# EAGLE library part CY62256LL-?* (library memory-sram)
256K (32K x 8) CMOS-Static RAM Source: http://download.cypress.com.edgesuite.net/design_resources/datasheets/contents/cy62256_8.pdf
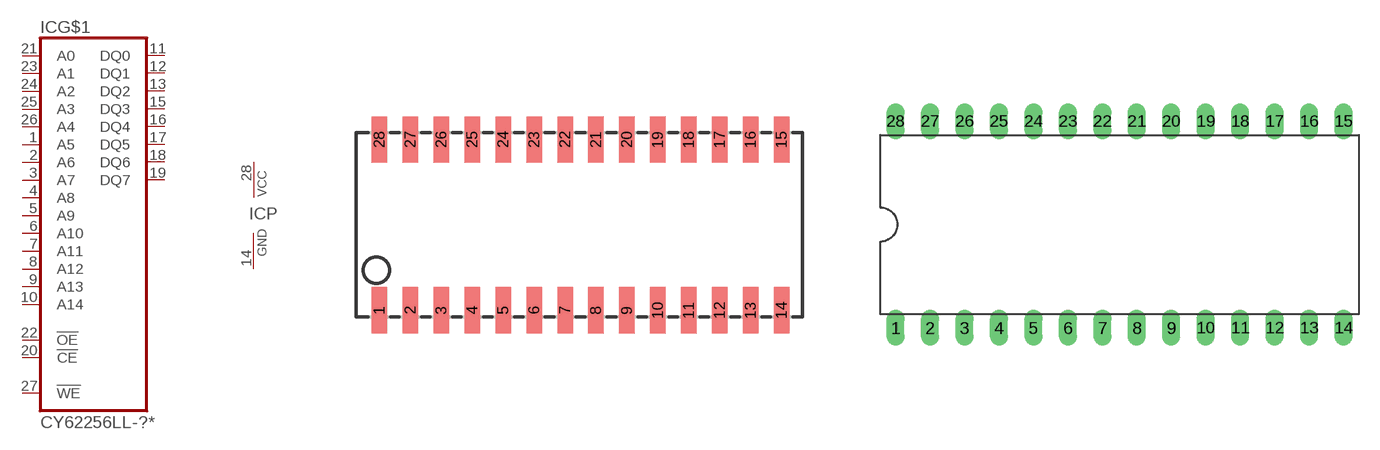
[diagram p25: symbol with the pads of SOJ28/3; footprints SOJ28/3, DIL28-6]

Designator prefix IC; gates G$1=LH52256 P=PWRN

## CY62256LL-SNC, CY62256LL-SNE, CY62256LL-SNI, CY62256LL-SNXC, CY62256LL-SNXE, CY62256LL-SNXI  [SOJ28/3]
1  G$1:A5  in
2  G$1:A6  in
3  G$1:A7  in
4  G$1:A8  in
5  G$1:A9  in
6  G$1:A10  in
7  G$1:A11  in
8  G$1:A12  in
9  G$1:A13  in
10  G$1:A14  in
11  G$1:DQ0
12  G$1:DQ1
13  G$1:DQ2
14  P:GND  pwr
15  G$1:DQ3
16  G$1:DQ4
17  G$1:DQ5
18  G$1:DQ6
19  G$1:DQ7
20  G$1:!CE  in
21  G$1:A0  in
22  G$1:!OE  in
23  G$1:A1  in
24  G$1:A2  in
25  G$1:A3  in
26  G$1:A4  in
27  G$1:!WE  in
28  P:VCC  pwr

## CY62256LL-PC, CY62256LL-PXC  [DIL28-6]
Pads as for SOJ28/3

## CY62256LL-ZC, CY62256LL-ZE, CY62256LL-ZXC, CY62256LL-ZXE, CY62256LL-ZXI  [TSOP1-28]
Pads as for SOJ28/3

## CY62256LL-ZRI, CY62256LL-ZRXE, CY62256LL-ZRXI  [TSOP1-28-R]
Pads as for SOJ28/3

## Footprint SOJ28/3 (pad centres in mm)
Small Outline J-Bend
smd 0.635 x 1.905: 1 -8.255,-3.505; 2 -6.985,-3.505; 3 -5.715,-3.505; 4 -4.445,-3.505; 5 -3.175,-3.505; 6 -1.905,-3.505; 7 -0.635,-3.505; 8 0.635,-3.505; 9 1.905,-3.505; 10 3.175,-3.505; 11 4.445,-3.505; 12 5.715,-3.505; 13 6.985,-3.505; 14 8.255,-3.505; 15 8.255,3.505; 16 6.985,3.505; 17 5.715,3.505; 18 4.445,3.505; 19 3.175,3.505; 20 1.905,3.505; 21 0.635,3.505; 22 -0.635,3.505; 23 -1.905,3.505; 24 -3.175,3.505; 25 -4.445,3.505; 26 -5.715,3.505; 27 -6.985,3.505; 28 -8.255,3.505

## Footprint DIL28-6 (pad centres in mm)
Dual In Line Package 0.6 inch
drill 0.813 long: 1 -16.51,-7.62; 2 -13.97,-7.62; 3 -11.43,-7.62; 4 -8.89,-7.62; 5 -6.35,-7.62; 6 -3.81,-7.62; 7 -1.27,-7.62; 8 1.27,-7.62; 9 3.81,-7.62; 10 6.35,-7.62; 11 8.89,-7.62; 12 11.43,-7.62; 13 13.97,-7.62; 14 16.51,-7.62; 15 16.51,7.62; 16 13.97,7.62; 17 11.43,7.62; 18 8.89,7.62; 19 6.35,7.62; 20 3.81,7.62; 21 1.27,7.62; 22 -1.27,7.62; 23 -3.81,7.62; 24 -6.35,7.62; 25 -8.89,7.62; 26 -11.43,7.62; 27 -13.97,7.62; 28 -16.51,7.62

## Footprint TSOP1-28 (pad centres in mm)
TSOP 1-28 28-pin Thin Small Outline Package Type 1 (8 x 13.4 mm) (51-85071) Source: http://download.cypress.com.edgesuite.net/design_resources/datasheets/contents/cy62256_8.pdf
smd 1 x 0.3: 1 -6.5,-0.275; 2 -6.5,-0.825; 3 -6.5,-1.375; 4 -6.5,-1.925; 5 -6.5,-2.475; 6 -6.5,-3.025; 7 -6.5,-3.575; 8 6.5,-3.575; 9 6.5,-3.025; 10 6.5,-2.475; 11 6.5,-1.925; 12 6.5,-1.375; 13 6.5,-0.825; 14 6.5,-0.275; 15 6.5,0.275; 16 6.5,0.825; 17 6.5,1.375; 18 6.5,1.925; 19 6.5,2.475; 20 6.5,3.025; 21 6.5,3.575; 22 -6.5,3.575; 23 -6.5,3.025; 24 -6.5,2.475; 25 -6.5,1.925; 26 -6.5,1.375; 27 -6.5,0.825; 28 -6.5,0.275

## Footprint TSOP1-28-R (pad centres in mm)
TSOP 1-28 R 28-pin Reverse Thin Small Outline Package Type 1 (8x13.4 mm) (51-85074) Source: http://download.cypress.com.edgesuite.net/design_resources/datasheets/contents/cy62256_8.pdf
smd 1 x 0.3: 1 -6.5,0.275; 2 -6.5,0.825; 3 -6.5,1.375; 4 -6.5,1.925; 5 -6.5,2.475; 6 -6.5,3.025; 7 -6.5,3.575; 8 6.5,3.575; 9 6.5,3.025; 10 6.5,2.475; 11 6.5,1.925; 12 6.5,1.375; 13 6.5,0.825; 14 6.5,0.275; 15 6.5,-0.275; 16 6.5,-0.825; 17 6.5,-1.375; 18 6.5,-1.925; 19 6.5,-2.475; 20 6.5,-3.025; 21 6.5,-3.575; 22 -6.5,-3.575; 23 -6.5,-3.025; 24 -6.5,-2.475; 25 -6.5,-1.925; 26 -6.5,-1.375; 27 -6.5,-0.825; 28 -6.5,-0.275